# Altium footprint library Mounting_Hole_Pcb.PcbLib: 4 footprints
Each footprint in its own frame and in the unit in brackets; x right, y up, seen from the top. Pads: shape width x height; smd on the part's side, far side on the other; paste and mask are expansions set on the pad; w line width, h text height; cw(c..) or ccw(c..) is an arc to the next point about the centre after c.
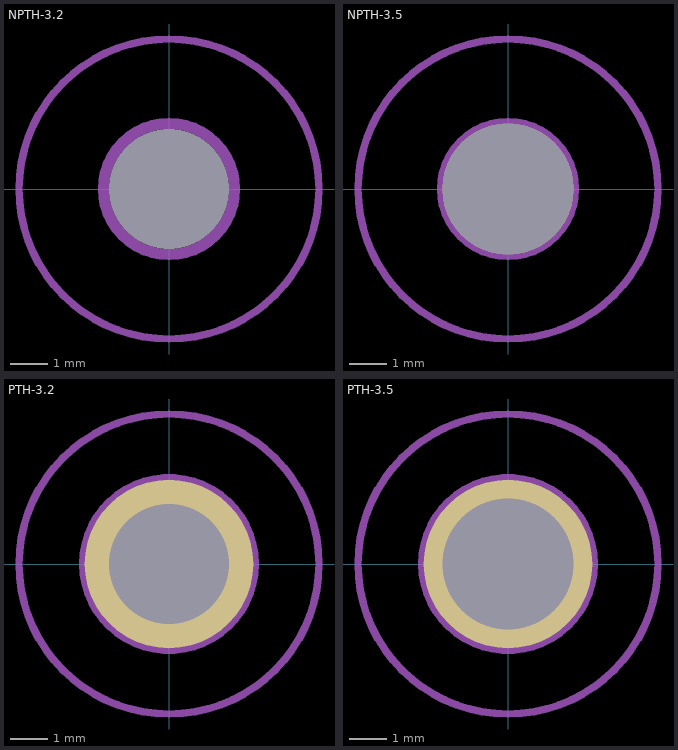
[diagram p0: the footprints below, top view; thin cyan lines are the x and y axes]

## NPTH-3.2 [mm]
pads (1):
  round 3 hole 3.2 unplated: ""(0,0)
Mechanical 13:
  circle w0.3: c0,0 r1.75
  lines w0.3: -1.75,0 1.75,0 ; 0,-1.75 0,1.75
  text ".designator" at -3.276,1.929 h1.5
Mechanical 15:
  circle w0.2: c0,0 r4

## NPTH-3.5 [mm]
pads (1):
  round 3.5 hole 3.5 unplated: ""(0,0)
Mechanical 13:
  circle w0.3: c0,0 r1.75
  lines w0.3: -1.75,0 1.75,0 ; 0,-1.75 0,1.75
  text ".designator" at -3.276,1.929 h1.5
Mechanical 15:
  circle w0.2: c0,0 r4

## PTH-3.2 [mm]
pads (1):
  round 4.5 hole 3.2: ""(0,0)
Mechanical 13:
  circle w0.3: c0,0 r2.25
  lines w0.3: -1.75,0 1.75,0 ; 0,-1.75 0,1.75
  text ".designator" at -3.276,1.929 h1.5
Mechanical 15:
  circle w0.2: c0,0 r4

## PTH-3.5 [mm]
pads (1):
  round 4.5 hole 3.5: ""(0,0)
Mechanical 13:
  circle w0.3: c0,0 r2.25
  lines w0.3: -1.75,0 1.75,0 ; 0,-1.75 0,1.75
  text ".designator" at -3.276,1.929 h1.5
Mechanical 15:
  circle w0.2: c0,0 r4